# Altium schematic symbol library eUSR_SchLibrary - Resistors.SchLib: 2 symbols
Pins are listed as number, name and electrical type; pins without a type are passive.

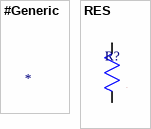
[diagram p0: symbols #Generic to RES]

## #Generic
designator ?
Manufacturing: #####; Value: #####; Package: #####; Price: #####; PN: #####; ComponentLink1Description: Datasheet; ComponentLink1URL: #####; ComponentLink2Description: Distributor Link; ComponentLink2URL: #####; Distributor: #####; Distributor PN: #####

## RES
designator R?  (value not drawn)
ComponentLink1Description: Datasheet; ComponentLink2Description: Distributor Link
pins: 1, 2